# Altium schematic symbol library DIODE TVS CPDV5-3V3UP.Schlib: 1 symbol
Pins are listed as number, name and electrical type; pins without a type are passive.

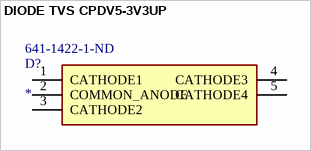
[diagram p0: symbol DIODE TVS CPDV5-3V3UP]

## DIODE TVS CPDV5-3V3UP
designator D?  Supplier Part Number 1: 641-1422-1-ND
TVS Diode Bidirectional Vbr = 3.5V, Working Voltage = 3.3V; Manufacturer_Name: Comchip Technology; Manufacturer Part Number: CPDV5-3V3UP; Datasheet Link: http://www.comchiptech.com/admin/files/product/CPDV5-3V3UP-HF%20RevB181493.pdf; Height: 1.1mm; Supplier 1: Digi-Key
footprint SOT65P230X110-5N
pins: 1 CATHODE1, 2 COMMON_ANODE, 3 CATHODE2, 4 CATHODE3, 5 CATHODE4